# EAGLE library part PINHD-2X4 (library lstolcman_thesis)
PIN HEADER
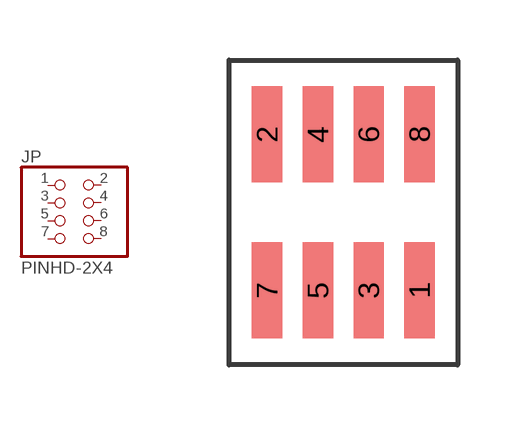
[diagram p6: symbol with the pads of 2X04_SMD; footprint 2X04_SMD]

Designator prefix JP

## PINHD-2X4  [2X04_SMD]
1  1  pas
2  2  pas
3  3  pas
4  4  pas
5  5  pas
6  6  pas
7  7  pas
8  8  pas

## Footprint 2X04_SMD (pad centres in mm)
PIN HEADER
smd 0.76 x 2.4: 1 3.81,-1.95; 2 0,1.95; 3 2.54,-1.95; 4 1.27,1.95; 5 1.27,-1.95; 6 2.54,1.95; 7 0,-1.95; 8 3.81,1.95